# Altium footprint library Inductor.PCBLIB: 7 footprints
Each footprint in its own frame and in the unit in brackets; x right, y up, seen from the top. Pads: shape width x height; smd on the part's side, far side on the other; paste and mask are expansions set on the pad; w line width, h text height; cw(c..) or ccw(c..) is an arc to the next point about the centre after c.
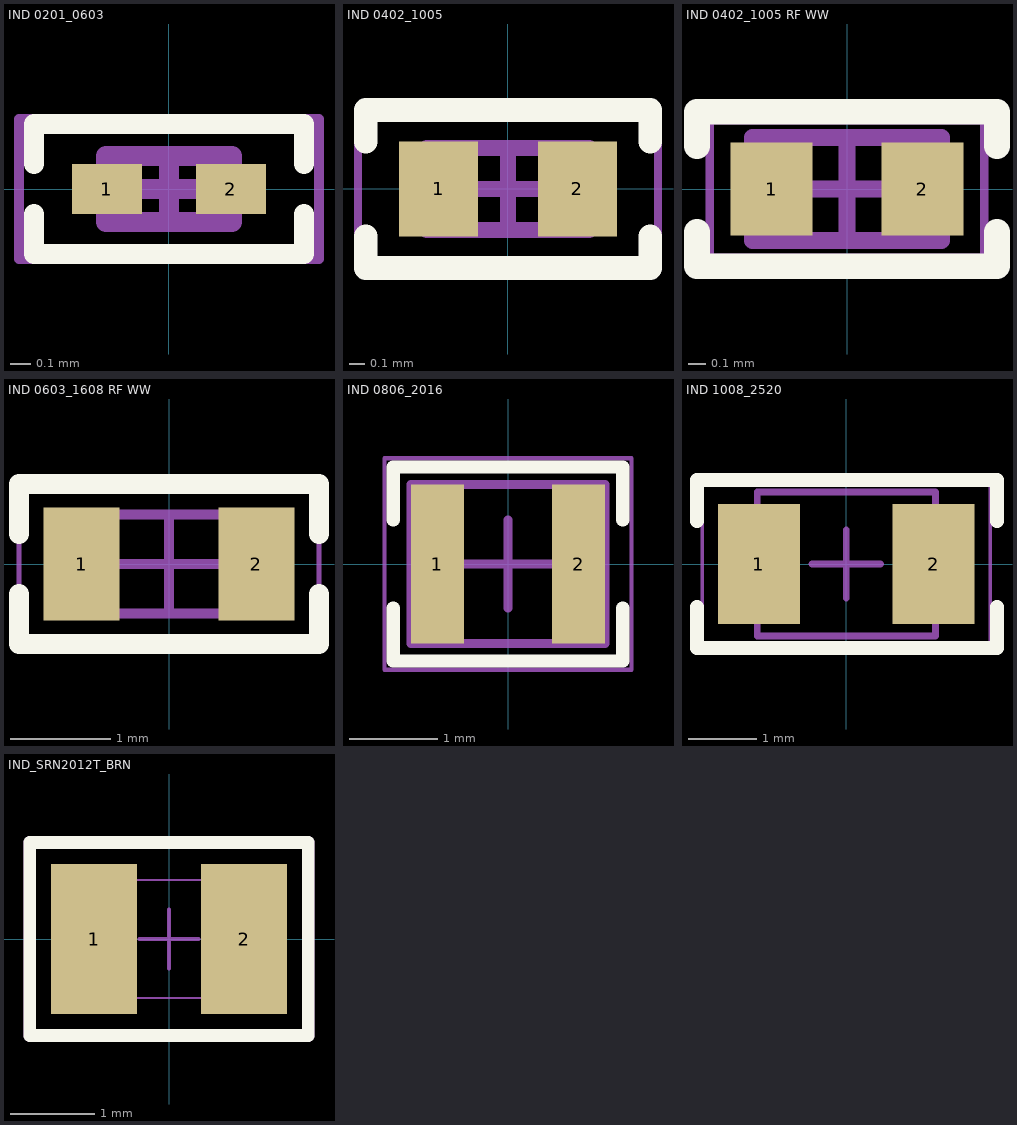
[diagram p0: the footprints below, top view; thin cyan lines are the x and y axes]

## IND 0201_0603 [mm] "Inductor, 2-Leads, Body 0.60x0.30mm, IPC Medium Density"
height 0.33
pads (2):
  rect 0.35x0.25 smd: 1(-0.31,0) 2(0.31,0)
Top Overlay:
  lines w0.1: -0.675,-0.125 -0.675,-0.325 0.675,-0.325 0.675,-0.125 ; -0.675,0.125 -0.675,0.325 0.675,0.325 0.675,0.125
Mechanical 13:
  lines w0.1: -0.315,-0.165 0.315,-0.165 0.315,0.165 -0.315,0.165 -0.315,-0.165
Mechanical 15:
  lines w0.05: -0.75,-0.35 0.75,-0.35 0.75,0.35 -0.75,0.35 -0.75,-0.35
  lines w0.1: -0.165,0 0.165,0 ; 0,-0.165 0,0.165
3D body "INDUC 0201.step": height 0.3, standoff 0, extent -0.3,-0.15 0.3,0.15

## IND 0402_1005 [mm] "Inductor, 2-Leads, Body 1.02x0.51mm, IPC Medium Density"
height 0.6
pads (2):
  rect 0.5x0.6 smd: 1(-0.44,0) 2(0.44,0)
Top Overlay:
  lines w0.15: -0.9,-0.3 -0.9,-0.5 0.9,-0.5 0.9,-0.3 ; -0.9,0.3 -0.9,0.5 0.9,0.5 0.9,0.3
Mechanical 13:
  lines w0.1: -0.515,-0.26 0.515,-0.26 0.515,0.26 -0.515,0.26 -0.515,-0.26
Mechanical 15:
  lines w0.05: -0.95,-0.5 0.95,-0.5 0.95,0.5 -0.95,0.5 -0.95,-0.5
  lines w0.1: -0.26,0 0.26,0 ; 0,-0.26 0,0.26
3D body "INDUC 0402.step": height 0.6, standoff 0, extent -0.5,-0.3 0.5,0.3

## IND 0402_1005 RF WW [mm] "Chip Inductor, 2-Leads, Body 1.00x0.50mm, IPC High Density"
height 0.6
pads (2):
  rect 0.48x0.54 smd: 1(-0.44,0) 2(0.44,0)
Top Overlay:
  lines w0.15: -0.875,-0.25 -0.875,-0.45 0.875,-0.45 0.875,-0.25 ; -0.875,0.25 -0.875,0.45 0.875,0.45 0.875,0.25
Mechanical 13:
  lines w0.1: -0.55,-0.3 -0.55,0.3 0.55,0.3 0.55,-0.3 -0.55,-0.3
Mechanical 15:
  lines w0.05: -0.8,-0.4 -0.8,0.4 0.8,0.4 0.8,-0.4 -0.8,-0.4
  lines w0.1: -0.3,0 0.3,0 ; 0,-0.3 0,0.3
3D body "IND-WireWound.STEP": height 0.5, standoff 0, extent -0.5,-0.276 0.5,0.277
3D body "IND-WireWound_TOP.STEP": height 0.51, standoff 0.26, extent -0.5,-0.287 0.5,0.287

## IND 0603_1608 RF WW [mm] "Chip Inductor, 2-Leads, Body 1.65x0.99mm, IPC Medium Density"
height 1
pads (2):
  rect 0.76x1.13 smd: 1(-0.875,0) 2(0.875,0)
Top Overlay:
  lines w0.2: -1.5,-0.3 -1.5,-0.8 1.5,-0.8 1.5,-0.3 ; -1.5,0.3 -1.5,0.8 1.5,0.8 1.5,0.3
Mechanical 13:
  lines w0.1: -0.825,-0.495 -0.825,0.495 0.825,0.495 0.825,-0.495 -0.825,-0.495
Mechanical 15:
  lines w0.05: -1.5,-0.85 -1.5,0.85 1.5,0.85 1.5,-0.85 -1.5,-0.85
  lines w0.1: -0.495,0 0.495,0 ; 0,-0.495 0,0.495
3D body "INDUC - 0603_1608 v4.step": height 0.79, standoff 0, extent -0.835,-0.536 0.835,0.55
3D body "INDUC - 0603_1608 v4.1.step": height 1, standoff 0.67, extent -0.835,-0.58 0.835,0.58

## IND 0806_2016 [mm] "Chip Capacitor, 2-Leads, Body 2.00x1.20mm, IPC Medium Density"
height 1.8
pads (2):
  rect 0.6x1.8 smd: 1(-0.8,0) 2(0.8,0)
Top Overlay:
  lines w0.15: -1.3,-0.5 -1.3,-1.1 1.3,-1.1 1.3,-0.5 ; -1.3,0.5 -1.3,1.1 1.3,1.1 1.3,0.5
Mechanical 13:
  lines w0.1: -1.1,-0.9 1.1,-0.9 1.1,0.9 -1.1,0.9 -1.1,-0.9
Mechanical 15:
  lines w0.05: -1.4,-1.2 1.4,-1.2 1.4,1.2 -1.4,1.2 -1.4,-1.2
  lines w0.1: -0.5,0 0.5,0 ; 0,-0.5 0,0.5
3D body "INDUC 0806.step": height 1.81, standoff -0.01, extent -1.01,-0.91 1.01,0.91

## IND 1008_2520 [mm] "Chip Inductance, 2-leads, Body 2.5x2.1mm, IPC Medium Density"
height 0.9
pads (2):
  rect 1.2x1.75 smd: 1(-1.275,0) 2(1.275,0)
Top Overlay:
  lines w0.2: -2.178,-0.625 -2.178,-1.225 2.2,-1.225 2.2,-0.625 ; -2.178,0.625 -2.178,1.225 2.2,1.225 2.2,0.625
Mechanical 13:
  lines w0.1: -1.3,-1.05 1.3,-1.05 1.3,1.05 -1.3,1.05 -1.3,-1.05
Mechanical 15:
  lines w0.05: -2.1,-1.2 -2.1,1.2 2.1,1.2 2.1,-1.2 -2.1,-1.2
  lines w0.1: -0.5,0 0.5,0 ; 0,-0.5 0,0.5
3D body "INDUC 1008.step": height 1, standoff 0, extent -1.3,-1.05 1.3,1.05

## IND_SRN2012T_BRN [mil]
pads (2):
  rect 40x70 smd paste+0 mask+0: 1(-35,0) 2(35,0)
Top Overlay:
  lines w6: -65,-45 -65,45 -53.5,45 53.5,45 65,45 65,-45 53.5,-45 -53.5,-45 -65,-45
Mechanical 13:
  circle w0: c-40.5,0 r3
  lines w1: -43.5,-27.5 43.5,-27.5 43.5,27.5 -43.5,27.5 -43.5,-27.5
Mechanical 15:
  lines w1.97: -13.78,0 13.78,0 ; 0,-13.78 0,13.78
  lines w6: -65,-45 -65,45 -53.5,45 53.5,45 65,45 65,-45 53.5,-45 -53.5,-45 -65,-45
3D body "IND_SRN2012T_BRN.step": height 47.09, standoff -0.12, extent -43.5,-27.6 43.5,27.6